# Altium schematic symbol library PCMCIA.SchLib: 6 symbols
Pins are listed as number, name and electrical type; pins without a type are passive.

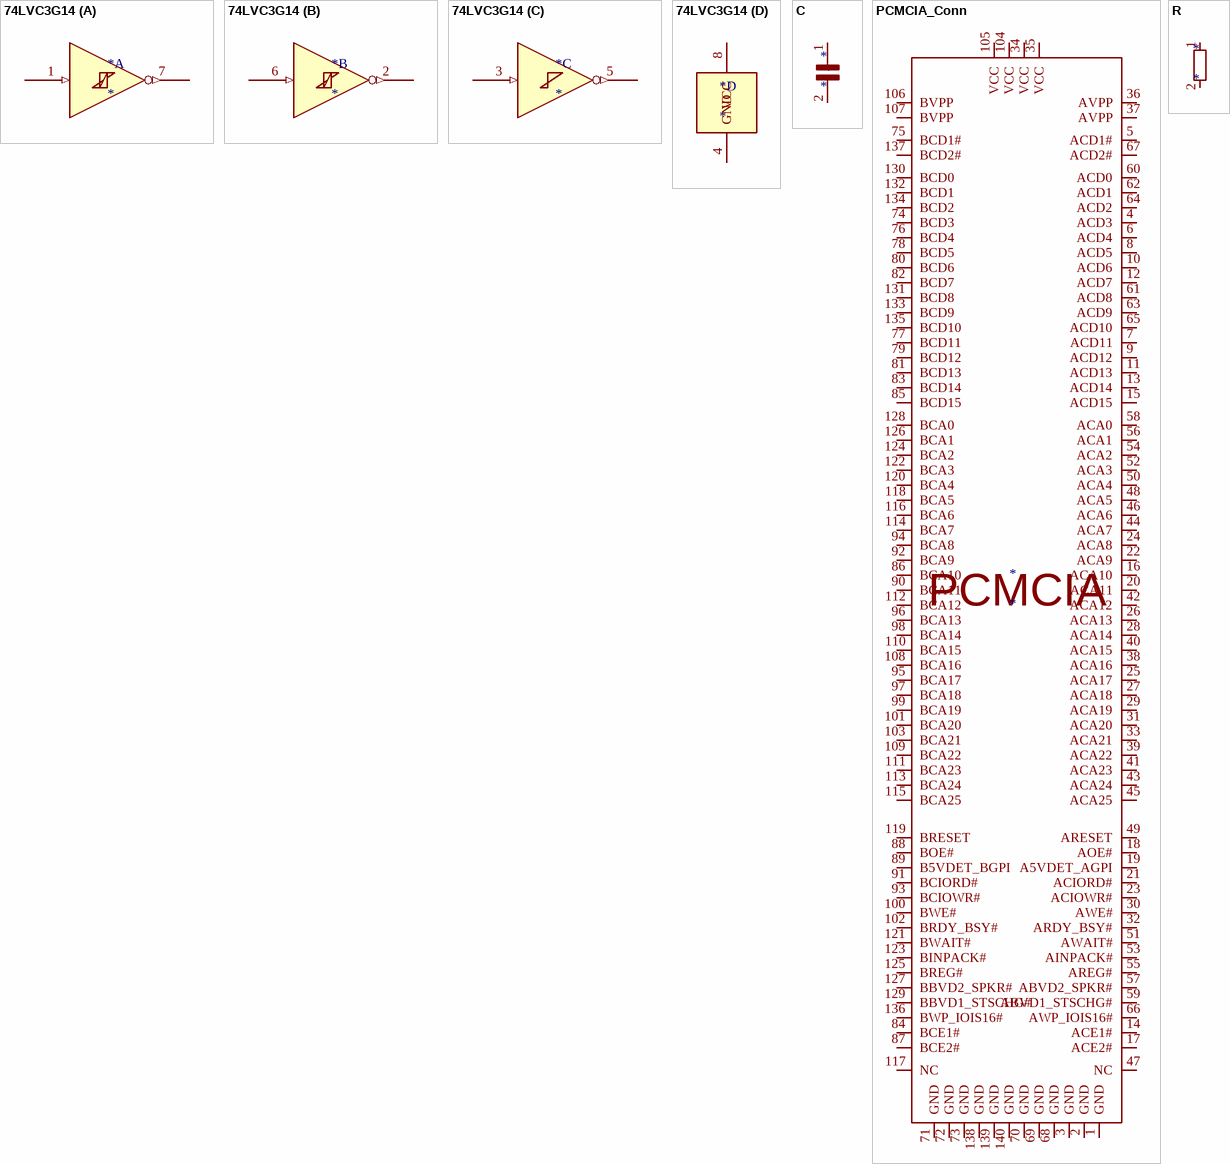
[diagram p0: symbols 74LVC3G14 to R]

## 74LVC3G14
designator *
part A pins: 1 (in), 7 (out)
part B pins: 2 (out), 6 (in)
part C pins: 3 (in), 5 (out)
part D pins: 4 GND (power), 8 VCC (power)

## C
designator *
pins: 1 +, 2 -
1 alternate drawing of the same symbol

## PCMCIA_Conn
designator *
pins: 1 GND (power), 2 GND (power), 3 GND (power), 4 ACD3 (io), 5 ACD1# (io), 6 ACD4 (io), 7 ACD11 (io), 8 ACD5 (io), 9 ACD12 (io), 10 ACD6 (io), 11 ACD13 (io), 12 ACD7 (io), 13 ACD14 (io), 14 ACE1# (io), 15 ACD15 (io), 16 ACA10 (io), 17 ACE2# (io), 18 AOE# (io), 19 A5VDET_AGPI (io), 20 ACA11 (io), 21 ACIORD# (io), 22 ACA9 (io), 23 ACIOWR# (io), 24 ACA8 (io), 25 ACA17 (io), 26 ACA13 (io), 27 ACA18 (io), 28 ACA14 (io), 29 ACA19 (io), 30 AWE# (io), 31 ACA20 (io), 32 ARDY_BSY# (io), 33 ACA21 (io), 34 VCC (power), 35 VCC (power), 36 AVPP (power), 37 AVPP (power), 38 ACA16 (io), 39 ACA22 (io), 40 ACA15 (io), 41 ACA23 (io), 42 ACA12 (io), 43 ACA24 (io), 44 ACA7 (io), 45 ACA25 (io), 46 ACA6 (io), 47 NC (io), 48 ACA5 (io), 49 ARESET (io), 50 ACA4 (io), 51 AWAIT# (io), 52 ACA3 (io), 53 AINPACK# (io), 54 ACA2 (io), 55 AREG# (io), 56 ACA1 (io), 57 ABVD2_SPKR# (io), 58 ACA0 (io), 59 ABVD1_STSCHG# (io), 60 ACD0 (io), 61 ACD8 (io), 62 ACD1 (io), 63 ACD9 (io), 64 ACD2 (io), 65 ACD10 (io), 66 AWP_IOIS16# (io), 67 ACD2# (io), 68 GND (power), 69 GND (power), 70 GND (power), 71 GND (power), 72 GND (power), 73 GND (power), 74 BCD3 (io), 75 BCD1# (io), 76 BCD4 (io), 77 BCD11 (io), 78 BCD5 (io), 79 BCD12 (io), 80 BCD6 (io), 81 BCD13 (io), 82 BCD7 (io), 83 BCD14 (io), 84 BCE1# (io), 85 BCD15 (io), 86 BCA10 (io), 87 BCE2# (io), 88 BOE# (io), 89 B5VDET_BGPI (io), 90 BCA11 (io), 91 BCIORD# (io), 92 BCA9 (io), 93 BCIOWR# (io), 94 BCA8 (io), 95 BCA17 (io), 96 BCA13 (io), 97 BCA18 (io), 98 BCA14 (io), 99 BCA19 (io), 100 BWE# (io), 101 BCA20 (io), 102 BRDY_BSY# (io), 103 BCA21 (io), 104 VCC (power), 105 VCC (power), 106 BVPP (power), 107 BVPP (power), 108 BCA16 (io), 109 BCA22 (io), 110 BCA15 (io), 111 BCA23 (io), 112 BCA12 (io), 113 BCA24 (io), 114 BCA7 (io), 115 BCA25 (io), 116 BCA6 (io), 117 NC (io), 118 BCA5 (io), 119 BRESET (io), 120 BCA4 (io), 121 BWAIT# (io), 122 BCA3 (io), 123 BINPACK# (io), 124 BCA2 (io), 125 BREG# (io), 126 BCA1 (io), 127 BBVD2_SPKR# (io), 128 BCA0 (io), 129 BBVD1_STSCHG# (io), 130 BCD0 (io), 131 BCD8 (io), 132 BCD1 (io), 133 BCD9 (io), 134 BCD2 (io), 135 BCD10 (io), 136 BWP_IOIS16# (io), 137 BCD2# (io), 138 GND (power), 139 GND (power), 140 GND (power)
text: PCMCIA

## R
designator *
pins: 1, 2

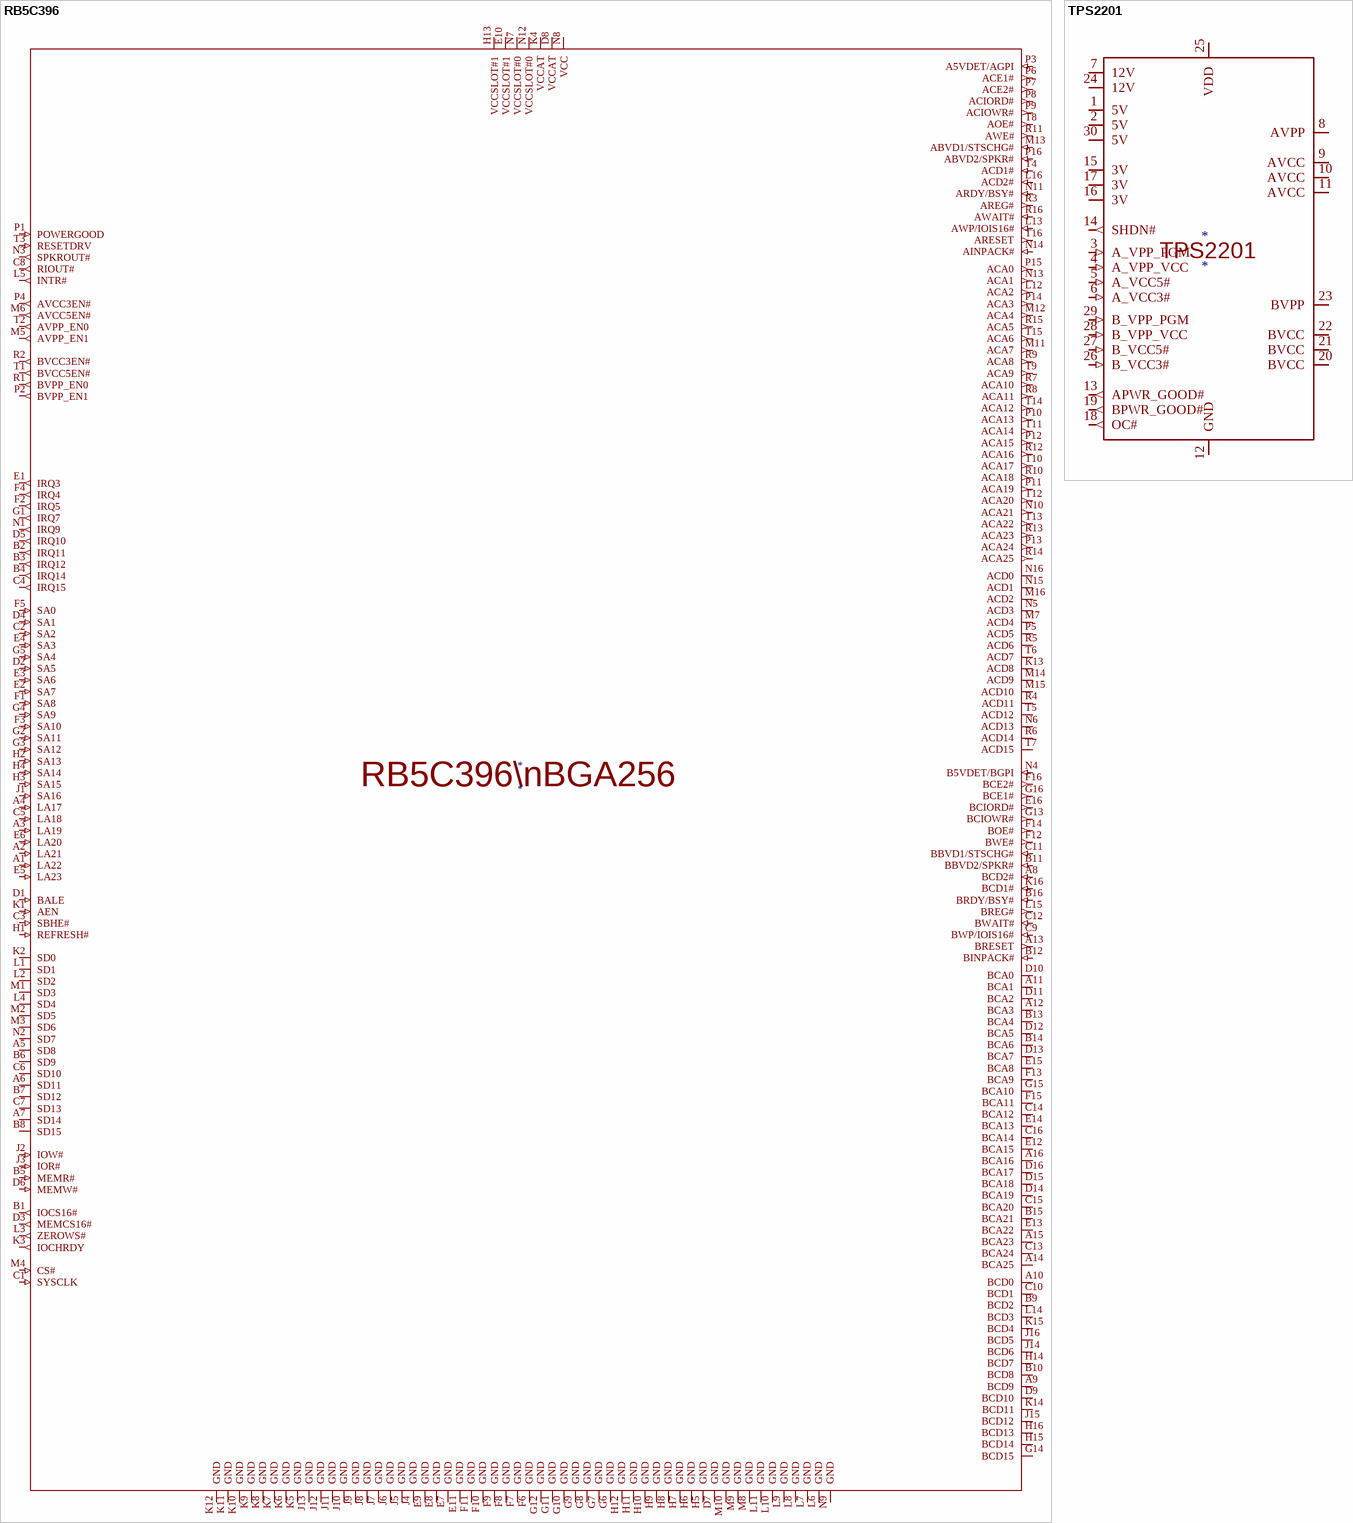
[diagram p1: symbols RB5C396 to TPS2201]

## RB5C396
designator *
pins: A1 LA22 (in), A2 LA21 (in), A3 LA19 (in), A4 LA17 (in), A5 SD8 (io), A6 SD11 (io), A7 SD14 (io), A8 BCD2# (in), A9 BCD9 (io), A10 BCD0 (io), A11 BCA1 (io), A12 BCA3 (io), A13 BRESET (out), A14 BCA25 (io), A15 BCA23 (io), A16 BCA16 (io), B1 IOCS16# (out), B2 IRQ11 (out), B3 IRQ12 (out), B4 IRQ14 (out), B5 MEMR# (in), B6 SD9 (io), B7 SD12 (io), B8 SD15 (io), B9 BCD2 (io), B10 BCD8 (io), B11 BBVD2/SPKR# (in), B12 BINPACK# (in), B13 BCA4 (io), B14 BCA6 (io), B15 BCA21 (io), B16 BRDY/BSY# (in), C1 SYSCLK (in), C2 SA2 (in), C3 SBHE# (in), C4 IRQ15 (out), C5 LA18 (in), C6 SD10 (io), C7 SD13 (io), C8 RIOUT# (out), C9 BWP/IOIS16# (in), C10 BCD1 (io), C11 BBVD1/STSCHG# (in), C12 BWAIT# (in), C13 BCA24 (io), C14 BCA12 (io), C15 BCA20 (io), C16 BCA14 (io), D1 BALE (in), D2 SA5 (in), D3 MEMCS16# (out), D4 SA1 (in), D5 IRQ10 (out), D6 MEMW# (in), D7 GND (power), D8 VCCAT (power), D9 BCD10 (io), D10 BCA0 (io), D11 BCA2 (io), D12 BCA5 (io), D13 BCA7 (io), D14 BCA19 (io), D15 BCA18 (io), D16 BCA17 (io), E1 IRQ3 (out), E2 SA7 (in), E3 SA6 (in), E4 SA3 (in), E5 LA23 (in), E6 LA20 (in), E7 GND (power), E8 GND (power), E9 GND (power), E10 VCCSLOT#1 (power), E11 GND (power), E12 BCA15 (io), E13 BCA22 (io), E14 BCA13 (io), E15 BCA8 (io), E16 BCIORD# (out), F1 SA8 (in), F2 IRQ5 (out), F3 SA10 (in), F4 IRQ4 (out), F5 SA0 (in), F6 GND (power), F7 GND (power), F8 GND (power), F9 GND (power), F10 GND (power), F11 GND (power), F12 BWE# (out), F13 BCA9 (io), F14 BOE# (out), F15 BCA11 (io), F16 BCE2# (out), G1 IRQ7 (out), G2 SA11 (in), G3 SA12 (in), G4 SA9 (in), G5 SA4 (in), G6 GND (power), G7 GND (power), G8 GND (power), G9 GND (power), G10 GND (power), G11 GND (power), G12 GND (power), G13 BCIOWR# (out), G14 BCD15 (io), G15 BCA10 (io), G16 BCE1# (out), H1 REFRESH# (in), H2 SA13 (in), H3 SA15 (in), H4 SA14 (in), H5 GND (power), H6 GND (power), H7 GND (power), H8 GND (power), H9 GND (power), H10 GND (power), H11 GND (power), H12 GND (power), H13 VCCSLOT#1 (power), H14 BCD7 (io), H15 BCD14 (io), H16 BCD13 (io), J1 SA16 (in), J2 IOW# (in), J3 IOR# (in), J4 GND (power), J5 GND (power), J6 GND (power), J7 GND (power), J8 GND (power), J9 GND (power), J10 GND (power), J11 GND (power), J12 GND (power), J13 GND (power), J14 BCD6 (io), J15 BCD12 (io), J16 BCD5 (io), K1 AEN (in), K2 SD0 (io), K3 IOCHRDY (out), K4 VCCAT (power), K5 GND (power), K6 GND (power), K7 GND (power), K8 GND (power), K9 GND (power), K10 GND (power), K11 GND (power), K12 GND (power), K13 ACD8 (io), K14 BCD11 (io), K15 BCD4 (io), K16 BCD1# (in), L1 SD1 (io), L2 SD2 (io), L3 ZEROWS# (out), L4 SD4 (io), L5 INTR# (out), L6 GND (power), L7 GND (power), L8 GND (power), L9 GND (power), L10 GND (power), L11 GND (power), L12 ACA2 (out), L13 AWP/IOIS16# (in), L14 BCD3 (io), L15 BREG# (out), L16 ACD2# (in), M1 SD3 (io), M2 SD5 (io), M3 SD6 (io), M4 CS# (in), M5 AVPP_EN1 (out), M6 AVCC5EN# (out), M7 ACD4 (io), M8 GND (power), M9 GND (power), M10 GND (power), M11 ACA7 (out), M12 ACA4 (out), M13 ABVD1/STSCHG# (in), M14 ACD9 (io), M15 ACD10 (io), M16 ACD2 (io), N1 IRQ9 (out), N2 SD7 (io), N3 SPKROUT# (out), N4 B5VDET/BGPI (in), N5 ACD3 (io), N6 ACD13 (io), N7 VCCSLOT#0 (power), N8 VCC (power), N9 GND (power), N10 ACA21 (out), N11 ARDY/BSY# (in), N12 VCCSLOT#0 (power), N13 ACA1 (out), N14 AINPACK# (in), N15 ACD1 (io), N16 ACD0 (io), P1 POWERGOOD (in), P2 BVPP_EN1 (out), P3 A5VDET/AGPI (in), P4 AVCC3EN# (out), P5 ACD5 (io), P6 ACE1# (out), P7 ACE2# (out), P8 ACIORD# (out), P9 ACIOWR# (out), P10 ACA13 (out), P11 ACA19 (out), P12 ACA15 (out), P13 ACA24 (out), P14 ACA3 (out), P15 ACA0 (out), P16 ABVD2/SPKR# (in), R1 BVPP_EN0 (out), R2 BVCC3EN# (out), R3 AREG# (out), R4 ACD11 (io), R5 ACD6 (io), R6 ACD14 (io), R7 ACA10 (out), R8 ACA11 (out), R9 ACA8 (out), R10 ACA18 (out), R11 AWE# (out), R12 ACA16 (out), R13 ACA23 (out), R14 ACA25 (out), R15 ACA5 (out), R16 AWAIT# (in), T1 BVCC5EN# (out), T2 AVPP_EN0 (out), T3 RESETDRV (in), T4 ACD1# (in), T5 ACD12 (io), T6 ACD7 (io), T7 ACD15 (io), T8 AOE# (out), T9 ACA9 (out), T10 ACA17 (out), T11 ACA14 (out), T12 ACA20 (out), T13 ACA22 (out), T14 ACA12 (out), T15 ACA6 (out), T16 ARESET (out)
text: RB5C396\nBGA256

## TPS2201
designator *
pins: 1 5V (power), 2 5V (power), 3 A_VPP_PGM (in), 4 A_VPP_VCC (in), 5 A_VCC5# (in), 6 A_VCC3# (in), 7 12V (power), 8 AVPP (power), 9 AVCC (power), 10 AVCC (power), 11 AVCC (power), 12 GND (power), 13 APWR_GOOD# (out), 14 SHDN# (out), 15 3V (power), 16 3V (power), 17 3V (power), 18 OC# (out), 19 BPWR_GOOD# (out), 20 BVCC (power), 21 BVCC (power), 22 BVCC (power), 23 BVPP (power), 24 12V (power), 25 VDD (power), 26 B_VCC3# (in), 27 B_VCC5# (in), 28 B_VPP_VCC (in), 29 B_VPP_PGM (in), 30 5V (power)